# EAGLE library part BLUETOOH-WF121 (library gclueWifi)
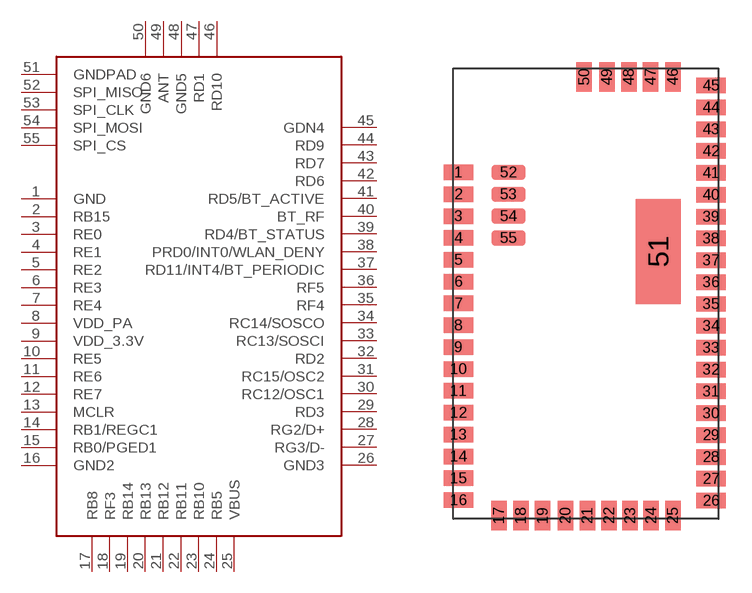
[diagram p0: symbol with the pads of BLUEGIGA-WF121; footprint BLUEGIGA-WF121]

Designator prefix WF121

## BLUETOOH-WF121  [BLUEGIGA-WF121]
1  GND
2  RB15
3  RE0
4  RE1
5  RE2
6  RE3
7  RE4
8  VDD_PA
9  VDD_3.3V
10  RE5
11  RE6
12  RE7
13  MCLR
14  RB1/REGC1
15  RB0/PGED1
16  GND2
17  RB8
18  RF3
19  RB14
20  RB13
21  RB12
22  RB11
23  RB10
24  RB5
25  VBUS
26  GND3
27  RG3/D-
28  RG2/D+
29  RD3
30  RC12/OSC1
31  RC15/OSC2
32  RD2
33  RC13/SOSCI
34  RC14/SOSCO
35  RF4
36  RF5
37  RD11/INT4/BT_PERIODIC
38  PRD0/INT0/WLAN_DENY
39  RD4/BT_STATUS
40  BT_RF
41  RD5/BT_ACTIVE
42  RD6
43  RD7
44  RD9
45  GDN4
46  RD10
47  RD1
48  GND5
49  ANT
50  GND6
51  GNDPAD
52  SPI_MISO
53  SPI_CLK
54  SPI_MOSI
55  SPI_CS

## Footprint BLUEGIGA-WF121 (pad centres in mm)
smd 1.7 x 0.9: 1 -7.4,7.05; 2 -7.4,5.78; 3 -7.4,4.51; 4 -7.4,3.24; 5 -7.4,1.97; 6 -7.4,0.7; 7 -7.4,-0.57; 8 -7.4,-1.84; 9 -7.4,-3.11; 10 -7.4,-4.38; 11 -7.4,-5.65; 12 -7.4,-6.92; 13 -7.4,-8.19; 14 -7.4,-9.46; 15 -7.4,-10.73; 16 -7.4,-12; 26 7.27,-12.03; 27 7.27,-10.76; 28 7.27,-9.49; 29 7.27,-8.22; 30 7.27,-6.95; 31 7.27,-5.68; 32 7.27,-4.41; 33 7.27,-3.14; 34 7.27,-1.87; 35 7.27,-0.6; 36 7.27,0.67; 37 7.27,1.94; 38 7.27,3.21; 39 7.27,4.48; 40 7.27,5.75; 41 7.27,7.02; 42 7.27,8.29; 43 7.27,9.56; 44 7.27,10.83; 45 7.27,12.1
smd 0.9 x 1.7: 17 -5.05,-12.9; 18 -3.78,-12.9; 19 -2.51,-12.9; 20 -1.19,-12.9; 21 0.08,-12.9; 22 1.35,-12.9; 23 2.57,-12.9; 24 3.79,-12.9; 25 5.05,-12.9; 46 5.05,12.6; 47 3.76,12.6; 48 2.49,12.6; 49 1.22,12.6; 50 -0.1,12.6
smd 2.6 x 6.1: 51 4.2,2.45
smd 2 x 0.9: 52 -4.5,7.05; 53 -4.5,5.78; 54 -4.5,4.51; 55 -4.5,3.24